# EAGLE library part BA1404 (library ba1404)
BA1404 FM STEREO TRANSMITTER Based on the english datasheet.
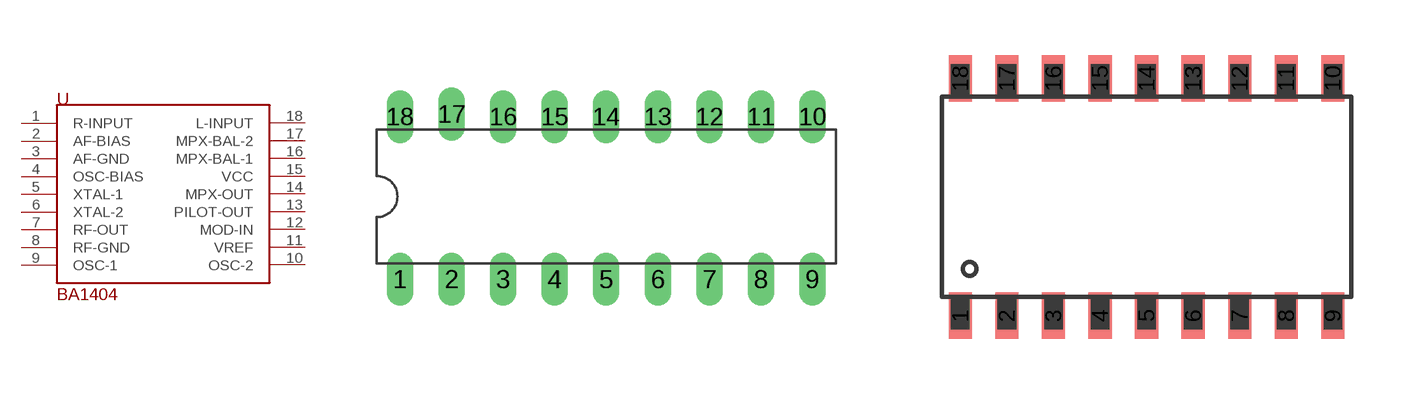
[diagram p0: symbol with the pads of BA1404; footprints BA1404, BA1404F]

Designator prefix -

## BA1404  [BA1404]
1  R-INPUT  in
2  AF-BIAS  in
3  AF-GND  in
4  OSC-BIAS  in
5  XTAL-1  in
6  XTAL-2  in
7  RF-OUT  out
8  RF-GND  in
9  OSC-1  in
10  OSC-2  in
11  VREF
12  MOD-IN  in
13  PILOT-OUT  out
14  MPX-OUT  out
15  VCC  pwr
16  MPX-BAL-1  in
17  MPX-BAL-2  in
18  L-INPUT  in

## BA1404F  [BA1404F]
Pads as for BA1404

## Footprint BA1404 (pad centres in mm)
Dual In Line Package
drill 0.8 long: 1 -10.287,-4.191; 2 -7.747,-4.191; 3 -5.207,-4.191; 4 -2.667,-4.191; 5 -0.127,-4.191; 6 2.413,-4.191; 7 4.953,-4.191; 8 7.493,-4.191; 9 10.033,-4.191; 10 10.033,3.81; 11 7.493,3.81; 12 4.953,3.81; 13 2.413,3.81; 14 -0.127,3.81; 15 -2.667,3.81; 16 -5.207,3.81; 17 -7.747,3.937; 18 -10.287,3.81

## Footprint BA1404F (pad centres in mm)
Small Outline package
smd 0.635 x 1.27: 1 -4.953,-3.302; 2 -3.683,-3.302; 3 -2.413,-3.302; 4 -1.143,-3.302; 5 0.127,-3.302; 6 1.397,-3.302; 7 2.667,-3.302; 8 3.937,-3.302; 9 5.207,-3.302; 10 5.207,3.175; 11 3.937,3.175; 12 2.667,3.175; 13 1.397,3.175; 14 0.127,3.175; 15 -1.143,3.175; 16 -2.413,3.175; 17 -3.683,3.175; 18 -4.953,3.175